# Altium footprint library 3.20-电池、蜂鸣器、测试焊盘.PcbLib: 55 footprints (part 4 of 4)
Each footprint in its own frame and in the unit in brackets; x right, y up, seen from the top. Pads: shape width x height; smd on the part's side, far side on the other; paste and mask are expansions set on the pad; w line width, h text height; cw(c..) or ccw(c..) is an arc to the next point about the centre after c.
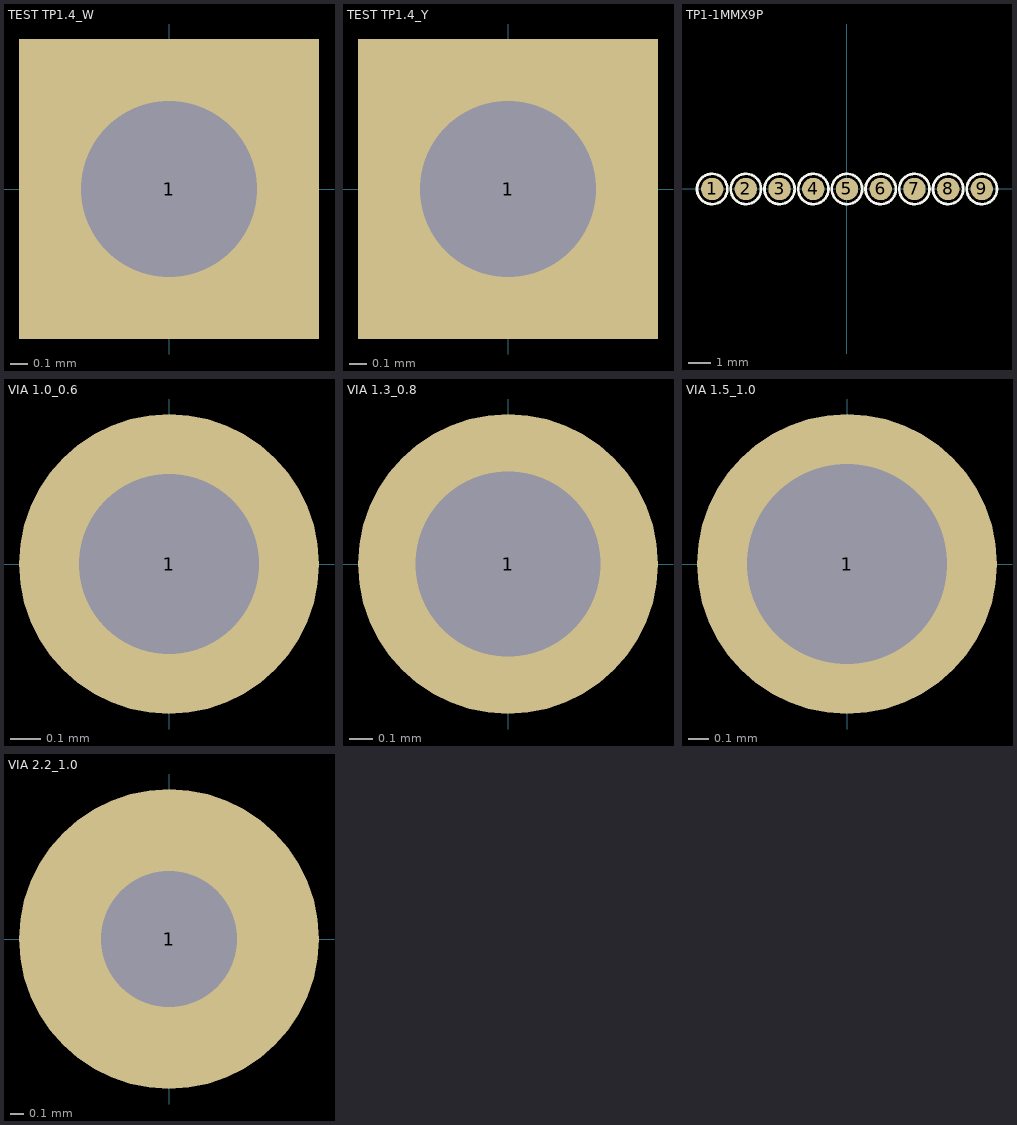
[diagram p3: the footprints below, top view; thin cyan lines are the x and y axes]

## TEST TP1.4_W [mm] "白色，测试环           淘宝ID:黄晶宝石"
pads (1):
  rect 1.7x1.7 hole 1: 1(0,0)
3D body "TEST_3.5R_w.STEP": height 2.75, standoff -5.81, extent -1.673,-1.4 1.673,1.4

## TEST TP1.4_Y [mm] "黄色，测试环              淘宝ID:黄晶宝石"
pads (1):
  rect 1.7x1.7 hole 1: 1(0,0)
3D body "TEST 3.5R_Y.stp": height 5.41, standoff -3.15, extent -1.673,-1.4 1.673,1.4

## TP1-1MMX9P [mm]
height 0.55
pads (9):
  round 1 smd: 1(-6,0) 2(-4.5,0) 3(-3,0) 4(-1.5,0) 5(0,0) 6(1.5,0) 7(3,0) 8(4.5,0) 9(6,0)
Top Overlay:
  circle w0.12: c-6,0 r0.675
  circle w0.12: c-4.5,0 r0.675
  circle w0.12: c-3,0 r0.675
  circle w0.12: c-1.5,0 r0.675
  circle w0.12: c0,0 r0.675
  circle w0.12: c1.5,0 r0.675
  circle w0.12: c3,0 r0.675
  circle w0.12: c4.5,0 r0.675
  circle w0.12: c6,0 r0.675

## VIA 1.0_0.6 [mm] "过孔焊盘 孔径0.6 外径1mm"
pads (1):
  round 1 hole 0.6: 1(0,0)

## VIA 1.3_0.8 [mm] "过孔焊盘 孔径0.8MM 外径1.3mm"
pads (1):
  round 1.3 hole 0.8: 1(0,0)

## VIA 1.5_1.0 [mm] "过孔焊盘 孔径1.0MM 外径1.5mm"
pads (1):
  round 1.5 hole 1: 1(0,0)

## VIA 2.2_1.0 [mm] "过孔焊盘 孔径1.0外径2.2mm"
pads (1):
  round 2.2 hole 1: 1(0,0)